# Altium schematic symbol library MS IMP Library.SchLib: 375 symbols (part 2 of 9)
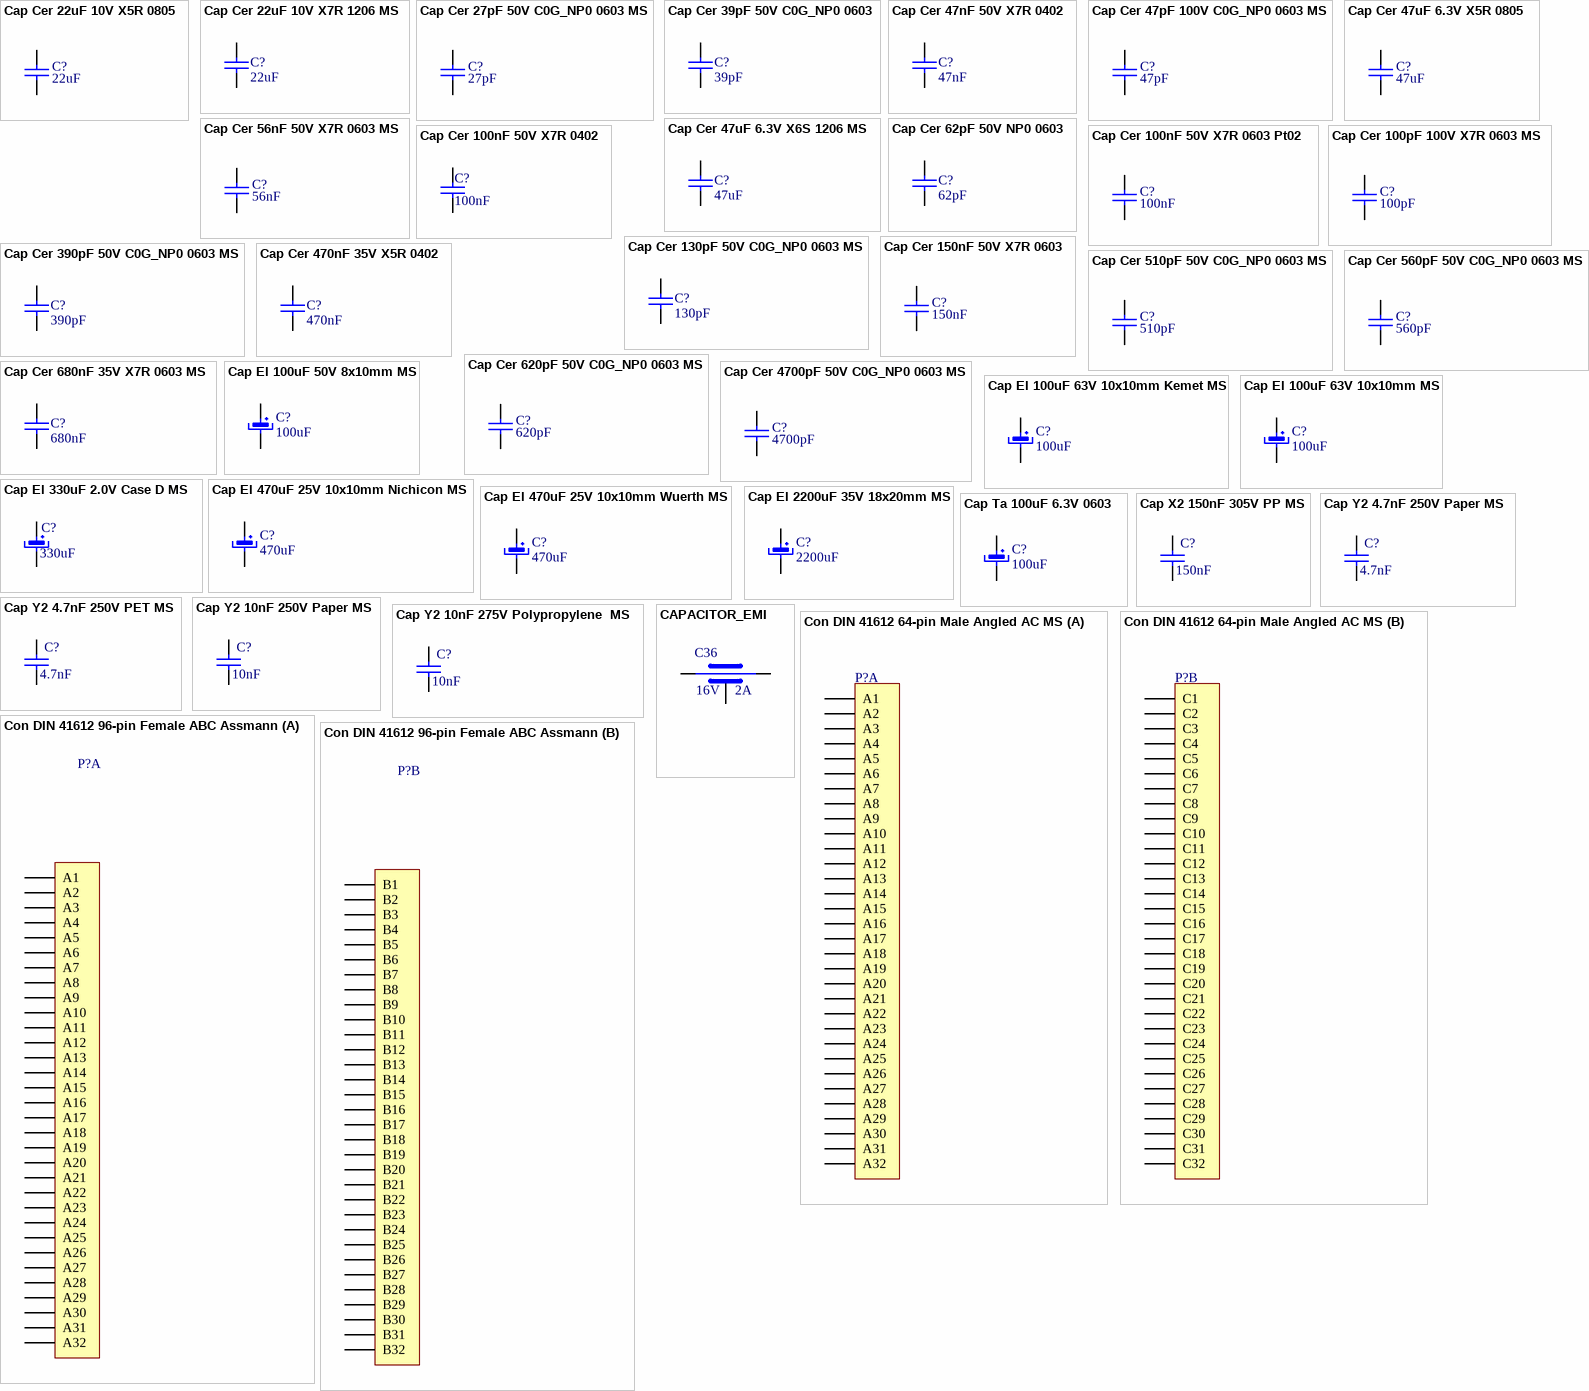
[diagram p23: symbols Cap Cer 22uF 10V X5R 0805 to Con DIN 41612 96-pin Female ABC Assmann]

## Cap Cer 47nF 50V X7R 0402
designator C?, comment DB Parameter 1: 47nF  (hidden comment: Ceramic Capacitor)
Ceramic Capacitor 47nF 50V X7R 0402; Manufacturer: Yageo; Manufacturer Part Number: CC0402KRX7R9BB473; Tolerance: ±10%; Production Status: Active; Distributor: Digi-Key; Distributor Part Number: 311-3815-1-ND; Last Revision Date: 30.10.2020.; Temperature Range: -55°C ~ +125°C; Mounting: SMD; ComponentLink1Description: Datasheet; ComponentLink1URL: https://www.yageo.com/upload/media/product/productsearch/datasheet/mlcc/UPY-GPHC_X7R_6.3V-to-50V_18.pdf; ComponentLink2Description: Distributor; ComponentLink2URL: https://www.digikey.com/en/products/detail/yageo/CC0402KRX7R9BB473/5883379; ComponentLink3Description: Manufacturer; ComponentLink3URL: https://www.yageo.com/en/ProductSearch/PartNumberSearch?part_number=CC0402KRX7R9BB473; Status: Not Checked; Voltage: 50V; Dielectric: X7R; ComponentLink4Description: Charts; ComponentLink4URL: https://www.yageo.com/upload/media/product/productsearch/datasheet/mlcc/UPY-GPHC_X7R_6.3V-to-50V_18.pdf; Capacitance: 47nF; DB Parameter 2: 50V; DB Parameter 3: X7R
footprint C0402 Fed MS
pins: 1, 2

## Cap Cer 47pF 100V C0G_NP0 0603 MS
designator C?, comment Capacitance: 47pF  (hidden comment: Ceramic Capacitor)
Ceramic Capacitor 47pF 100V C0G_NP0 0603; Manufacturer: KEMET; Manufacturer Part Number: C0603C470J1GACAUTO; Tolerance: ±5%; Distributor: Digi-Key; Distributor Part Number: 399-16021-1-ND; Last Revision Date: 28.07.2021; Temperature Range: -55°C ~ +125°C; Mounting: SMD; ComponentLink1Description: Datasheet; ComponentLink1URL: https://content.kemet.com/datasheets/KEM_C1022_C0G_AUTO_SMD.pdf; ComponentLink2Description: Distributor; ComponentLink2URL: https://www.digikey.com/en/products/detail/kemet/C0603C470J1GACAUTO/7516254; ComponentLink3Description: Manufacturer; ComponentLink3URL: https://www.kemet.com/en/us/search.html?q=C0603C470J1GACAUTO&t=566; Status: Not Checked; Voltage: 100V; Dielectric: C0G_NP0; ComponentLink4Description: Charts; ComponentLink4URL: https://www.kemet.com/en/us/search.html?q=C0603C470J1GACAUTO&t=566; DB Parameter 1: 47pF; DB Parameter 2: 100V; DB Parameter 3: C0G_NP0
footprint C0603L 0.8 MM MS (Chip Capacitor, Body 1.6x0.8mm, IPC High Density)
pins: 1, 2

## Cap Cer 47uF 6.3V X5R 0805
designator C?, comment Capacitance: 47uF  (hidden comment: Ceramic Capacitor)
Ceramic Capacitor 47uF 6.3V X5R 0805; Manufacturer: Taiyo Yuden; Manufacturer Part Number: JMK212BJ476MG-T; Tolerance: ±20%; Production Status: Active; Distributor: Mouser; Distributor Part Number: 963-JMK212BJ476MG-T; Last Revision Date: 19.10.2020.; Temperature Range: -55°C ~ +85°C; Mounting: SMD; ComponentLink1Description: Datasheet; ComponentLink1URL: https://ds.yuden.co.jp/TYCOMPAS/or/detail?pn=JMK212BBJ476MG-T&u=M; ComponentLink2Description: Distributor; ComponentLink2URL: https://www.digikey.com/en/products/detail/taiyo-yuden/JMK212BJ476MG-T/1212779; ComponentLink3Description: Manufacturer; ComponentLink3URL: https://ds.yuden.co.jp/TYCOMPAS/or/detail?pn=JMK212BBJ476MG-T&u=M; Status: Not Checked; Voltage: 6.3V; Dielectric: X5R; ComponentLink4Description: Charts; ComponentLink4URL: https://ds.yuden.co.jp/TYCOMPAS/or/detail?pn=JMK212BBJ476MG-T&u=M; DB Parameter 2: 6.3V; DB Parameter 3: X5R; DB Parameter 1: 47uF
footprint 0805 C 1.27mm MS (Capacitor 0805 1.27mm)
pins: 1, 2

## Cap Cer 47uF 6.3V X6S 1206 MS
designator C?, comment DB Parameter 1: 47uF  (hidden comment: Ceramic Capacitor)
Ceramic Capacitor 47uF 6.3V X6S 1206; Manufacturer: Murata Electronics; Manufacturer Part Number: GRM31CC80J476ME18L; Tolerance: ±10%; Production Status: Active; Distributor: Mouser; Distributor Part Number: 81-GRM31CC80J476ME8L; Last Revision Date: 16.11.2021; Temperature Range: -55°C ~ +105°C; Mounting: SMD; ComponentLink1Description: Datasheet; ComponentLink2Description: Distributor; ComponentLink2URL: https://eu.mouser.com/ProductDetail/Murata/GRM31CC80J476ME18L?qs=sGAEpiMZZMut9fa67LKaQm6Q54R54Ui%252B1OETq2MOsJQ%3D; ComponentLink3Description: Manufacturer; Status: Not Checked; Voltage: 6.3V; Dielectric: X6S; ComponentLink4Description: Charts; Capacitance: 47uF; DB Parameter 2: 6.3V; DB Parameter 3: X6S
footprint 1206 C 1.80mm (Ceramic Capacitor 1206 1.80mm)
pins: 1, 2

## Cap Cer 56nF 50V X7R 0603 MS
designator C?, comment Capacitance: 56nF  (hidden comment: Ceramic Capacitor)
Ceramic Capacitor 56nF 50V X7R 0603; Manufacturer: Yageo; Manufacturer Part Number: CC0603KRX7R9BB563; Tolerance: ±10%; Production Status: Active; Distributor: Mouser; Distributor Part Number: 603-CC603KRX7R9BB563; Last Revision Date: 12.02.2021; Temperature Range: -55°C ~ +125°C; Mounting: SMD; ComponentLink1Description: Datasheet; ComponentLink1URL: https://www.yageo.com/upload/media/product/productsearch/datasheet/mlcc/UPY-GPHC_X7R_6.3V-to-50V_20.pdf; ComponentLink2Description: Distributor; ComponentLink2URL: https://eu.mouser.com/ProductDetail/YAGEO/CC0603KRX7R9BB563?qs=57cj7OiSijmLSlNkQYflZA%3D%3D; ComponentLink3Description: Manufacturer; ComponentLink3URL: https://www.yageo.com/en/ProductSearch/PartNumberSearch?part_number=CC0603KRX7R9BB563; Status: Not Checked; Voltage: 50V; Dielectric: X7R; ComponentLink4Description: Charts; ComponentLink4URL: https://www.yageo.com/en/Chart/Index/CC0603KRX7R9BB563; DB Parameter 1: 56nF; DB Parameter 2: 50V; DB Parameter 3: X7R
footprint C0603L 0.8 MM MS (Chip Capacitor, Body 1.6x0.8mm, IPC High Density)
pins: 1, 2

## Cap Cer 62pF 50V NP0 0603
designator C?, comment DB Parameter 1: 62pF  (hidden comment: Ceramic Capacitor)
Ceramic Capacitor 62pF 50V NP0 0603; Manufacturer: Yageo; Manufacturer Part Number: CC0603JRNPO9BN620; Tolerance: ±5%; Production Status: Active; Distributor: Mouser; Distributor Part Number: 603-CC603JRNPO9BN620; Last Revision Date: 01.11.2020.; Temperature Range: -55°C ~ +125°C; Mounting: SMD; ComponentLink1Description: Datasheet; ComponentLink1URL: https://www.yageo.com/upload/media/product/productsearch/datasheet/mlcc/UPY-GP_NP0_16V-to-50V_18.pdf; ComponentLink2Description: Distributor; ComponentLink2URL: https://eu.mouser.com/ProductDetail/Yageo/CC0603JRNPO9BN620?qs=57cj7OiSijmF5ThM5Gs2zA%3D%3D; ComponentLink3Description: Manufacturer; ComponentLink3URL: https://www.yageo.com/en/ProductSearch/PartNumberSearch?part_number=CC0603JRNPO9BN620; Status: Not Checked; Voltage: 50V; Dielectric: NP0; ComponentLink4Description: Charts; Capacitance: 62pF; DB Parameter 2: 50V; DB Parameter 3: NP0
footprint C0603L 0.8 MM MS (Chip Capacitor, Body 1.6x0.8mm, IPC High Density)
pins: 1, 2

## Cap Cer 100nF 50V X7R 0402
designator C?, comment DB Parameter 1: 100nF  (hidden comment: Ceramic Capacitor)
Ceramic Capacitor 100nF 50V X7R 0402; Manufacturer: TDK Corporation; Manufacturer Part Number: CGA2B3X7R1H473K050BB; Tolerance: ±10%; Production Status: Active; Distributor: Digi-Key; Distributor Part Number: 445-6897-1-ND; Last Revision Date: 30.10.2020.; Temperature Range: -55°C ~ +125°C; Mounting: SMD; ComponentLink1Description: Datasheet; ComponentLink1URL: https://product.tdk.com/info/en/catalog/datasheets/mlcc_automotive_general_en.pdf; ComponentLink2Description: Distributor; ComponentLink2URL: https://www.digikey.com/en/products/detail/tdk-corporation/CGA2B3X7R1H473K050BB/2672790; ComponentLink3Description: Manufacturer; ComponentLink3URL: https://search.tdk.com/search?site=FBNXDO0R&charset=UTF-8&group=5&design=31&query=CGA2B3X7R1H473K050BB; Status: Not Checked; Voltage: 50V; Dielectric: X7R; ComponentLink4Description: Charts; ComponentLink4URL: https://product.tdk.com/info/en/documents/chara_sheet/CGA2B3X7R1H473K050BB.pdf; Capacitance: 100nF; DB Parameter 2: 50V; DB Parameter 3: X7R
footprint C0402 Fed MS
pins: 1, 2

## Cap Cer 100nF 50V X7R 0603 Pt02
designator C?, comment Capacitance: 100nF  (hidden comment: Ceramic Capacitor)
Ceramic Capacitor 100nF 50V X7R 0603; Manufacturer: Samsung Electro-Mechanics; Manufacturer Part Number: CL10B104KB8WPNC; Tolerance: ±10%; Distributor: Mouser; Distributor Part Number: 187-CL10B104KB8WPNC; Last Revision Date: 19.10.2020.; Temperature Range: -55°C ~ +125°C; Mounting: SMD; ComponentLink1Description: Datasheet; ComponentLink1URL: https://eu.mouser.com/datasheet/2/396/mlcc02_e-1307760.pdf; ComponentLink2Description: Distributor; ComponentLink2URL: https://eu.mouser.com/ProductDetail/Taiyo-Yuden/JMK212BJ476MG-T?qs=I6KAKw0tg2zBfYZ1Prs1hQ%3D%3D; ComponentLink3Description: Manufacturer; ComponentLink3URL: https://ds.yuden.co.jp/TYCOMPAS/or/detail?pn=JMK212BBJ476MG-T&u=M; Status: Not Checked; Voltage: 50V; Dielectric: X7R; ComponentLink4Description: Charts; DB Parameter 1: 100nF; DB Parameter 2: 50V; DB Parameter 3: X7R
footprint C0603L 0.8 MM MS (Chip Capacitor, Body 1.6x0.8mm, IPC High Density)
pins: 1, 2

## Cap Cer 100pF 100V X7R 0603 MS
designator C?, comment Capacitance: 100pF  (hidden comment: Ceramic Capacitor)
Ceramic Capacitor 100pF 100V X7R 0603; Manufacturer: AVX Corporation; Manufacturer Part Number: 06031C101JAT2A; Tolerance: ±5%; Distributor: Digi-Key; Distributor Part Number: 478-12671-1-ND; Last Revision Date: 02.04.202; Temperature Range: -55°C ~ +125°C; Mounting: SMD; ComponentLink1Description: Datasheet; ComponentLink1URL: https://datasheets.avx.com/X7RDielectric.pdf; ComponentLink2Description: Distributor; ComponentLink2URL: https://www.digikey.com/en/products/detail/avx-corporation/06031C101JAT2A/1598651; ComponentLink3Description: Manufacturer; ComponentLink3URL: https://spicat.avx.com/product/mlcc/chartview/06031C101JAT2A; Status: Not Checked; Voltage: 100V; Dielectric: X7R; ComponentLink4Description: Charts; ComponentLink4URL: https://spicat.avx.com/product/mlcc/chartview/06031C101JAT2A; DB Parameter 1: 100pF; DB Parameter 2: 100V; DB Parameter 3: X7R
footprint C0603L 0.8 MM MS (Chip Capacitor, Body 1.6x0.8mm, IPC High Density)
pins: 1, 2

## Cap Cer 130pF 50V C0G_NP0 0603 MS
designator C?, comment DB Parameter 1: 130pF  (hidden comment: Ceramic Capacitor)
Ceramic Capacitor 130pF 50V C0G_NP0 0603; Manufacturer: Kemet; Manufacturer Part Number: GRM1885C1H131GA01D; Tolerance: ±10%; Production Status: Active; Distributor: Mouser; Distributor Part Number: 81-GRM1885C1H131GA1D; Last Revision Date: 14.03.2021; Temperature Range: -55°C ~ +125°C; Mounting: SMD; ComponentLink1Description: Datasheet; ComponentLink1URL: https://www.murata.com/en-global/api/pdfdownloadapi?cate=luCeramicCapacitorsSMD&partno=GRM1885C1H131GA01%23; ComponentLink2Description: Distributor; ComponentLink2URL: https://eu.mouser.com/ProductDetail/Murata-Electronics/GRM1885C1H131GA01D?qs=2YjXvJr3xvh9r2cRgTaJCA%3D%3D; ComponentLink3Description: Manufacturer; ComponentLink3URL: https://www.murata.com/en-global/products/productdetail?partno=GRM1885C1H131GA01%23; Status: Not Checked; Voltage: 50V; Dielectric: C0G_NP0; ComponentLink4Description: Charts; ComponentLink4URL: https://www.murata.com/en-global/products/productdetail?partno=GRM1885C1H131GA01%23; Capacitance: 130pF; DB Parameter 2: 50V; DB Parameter 3: C0G_NP0
footprint C0603L 0.8 MM MS (Chip Capacitor, Body 1.6x0.8mm, IPC High Density)
pins: 1, 2

## Cap Cer 150nF 50V X7R 0603
designator C?, comment Capacitance: 150nF  (hidden comment: Ceramic Capacitor)
Ceramic Capacitor 150nF 50V X7R 0603; Manufacturer: Samsung Electro-Mechanics; Manufacturer Part Number: CL10B154KB8VPNC; Tolerance: ±10%; Production Status: Active; Distributor: Mouser; Distributor Part Number: 187-CL10B154KB8VPNC; Last Revision Date: 14.03.2021; Temperature Range: -55°C ~ +125°C; Mounting: SMD; ComponentLink1Description: Datasheet; ComponentLink1URL: https://eu.mouser.com/datasheet/2/585/MLCC_Automotive-1837966.pdf; ComponentLink2Description: Distributor; ComponentLink2URL: https://eu.mouser.com/ProductDetail/Samsung-Electro-Mechanics/CL10B154KB8VPNC?qs=xZ%2FP%252Ba9zWqadK55wlmdl%252BA%3D%3D; ComponentLink3Description: Manufacturer; ComponentLink3URL: http://product.samsungsem.com/mlcc/CL10B154KB8VPN.do; Status: Not Checked; Voltage: 50V; Dielectric: X7R; ComponentLink4Description: Charts; DB Parameter 1: 150nF; DB Parameter 2: 50V; DB Parameter 3: X7R; Populated: http://product.samsungsem.com/mlcc/CL10B154KB8VPN.do
footprint C0603L 0.8 MM MS (Chip Capacitor, Body 1.6x0.8mm, IPC High Density)
pins: 1, 2

## Cap Cer 390pF 50V C0G_NP0 0603 MS
designator C?, comment DB Parameter 1: 390pF  (hidden comment: Ceramic Capacitor)
Ceramic Capacitor 390pF 50V C0G_NP0 0603; Manufacturer: Samsung Electro-Mechanics; Manufacturer Part Number: CL10C391JB81PNC; Tolerance: ±5%; Production Status: Active; Distributor: Mouser; Distributor Part Number: 187-CL10C391JB81PNC; Last Revision Date: 14.12.2021; Temperature Range: -55°C ~ +125°C; Mounting: SMD; ComponentLink1Description: Datasheet; ComponentLink1URL: http://product.samsungsem.com/mlcc/CL10C391JB81PN.do; ComponentLink2Description: Distributor; ComponentLink2URL: https://eu.mouser.com/ProductDetail/Samsung-Electro-Mechanics/CL10C391JB81PNC?qs=uvHW8qpSFOSCmwqoLNbh5w%3D%3D; ComponentLink3Description: Manufacturer; ComponentLink3URL: http://product.samsungsem.com/mlcc/CL10C391JB81PN.do; Status: Not Checked; Voltage: 50V; Dielectric: C0G_NP0; ComponentLink4Description: Charts; ComponentLink4URL: http://product.samsungsem.com/mlcc/CL10C391JB81PN.do; Capacitance: 390pF; DB Parameter 2: 50V; DB Parameter 3: C0G_NP0
footprint C0603L 0.8 MM MS (Chip Capacitor, Body 1.6x0.8mm, IPC High Density)
pins: 1, 2

## Cap Cer 470nF 35V X5R 0402
designator C?, comment DB Parameter 1: 470nF  (hidden comment: Ceramic Capacitor)
Ceramic Capacitor 470nF 35V X5R 0402; Manufacturer: Murata Electronics; Manufacturer Part Number: GRT155R6YA474ME01D; Tolerance: ±10%; Production Status: Active; Distributor: Digi-Key; Distributor Part Number: 490-12274-1-ND; Last Revision Date: 30.10.2020.; Temperature Range: -55°C ~ +85°C; Mounting: SMD; ComponentLink1Description: Datasheet; ComponentLink1URL: https://search.murata.co.jp/Ceramy/image/img/A01X/G101/ENG/GRT155R6YA474ME01-01.pdf; ComponentLink2Description: Distributor; ComponentLink2URL: https://www.digikey.com/en/products/detail/murata-electronics/GRT155R6YA474ME01D/5416696; ComponentLink3Description: Manufacturer; ComponentLink3URL: https://www.murata.com/en-global/products/productdetail?partno=GRT155R6YA474KE01%23; Status: Not Checked; Voltage: 35V; Dielectric: X5R; ComponentLink4Description: Charts; ComponentLink4URL: https://www.murata.com/en-global/products/productdetail?partno=GRT155R6YA474KE01%23; Capacitance: 470nF; DB Parameter 2: 35V; DB Parameter 3: X5R
footprint C0402 Fed MS
pins: 1, 2

## Cap Cer 510pF 50V C0G_NP0 0603 MS
designator C?, comment Capacitance: 510pF  (hidden comment: Ceramic Capacitor)
Ceramic Capacitor 510pF 50V C0G_NP0 0603; Manufacturer: Kemet; Manufacturer Part Number: C0603C511K5GACTU; Tolerance: ±10%; Production Status: Active; Distributor: Mouser; Distributor Part Number: 80-C0603C511K5G; Last Revision Date: 16.11.2021; Temperature Range: -55°C ~ +125°C; Mounting: SMD; ComponentLink1Description: Datasheet; ComponentLink1URL: https://eu.mouser.com/datasheet/2/212/KEM_C1003_C0G_SMD-1101588.pdf; ComponentLink2Description: Distributor; ComponentLink2URL: https://eu.mouser.com/ProductDetail/KEMET/C0603C511K5GACTU?qs=%2Fha2pyFaduhNQY3NhlHxeW4BUWzIjA29XHALDuH%252BrVjawX5nGbp5uQ%3D%3D; ComponentLink3Description: Manufacturer; ComponentLink3URL: https://www.kemet.com/en/us/capacitors/ceramic/product/C0603C511K5GACTU.html; Status: Not Checked; Voltage: 50V; Dielectric: C0G_NP0; ComponentLink4Description: Charts; ComponentLink4URL: https://www.kemet.com/en/us/capacitors/ceramic/product/C0603C511K5GACTU.html; DB Parameter 1: 510pF; DB Parameter 2: 50V; DB Parameter 3: C0G_NP0
footprint C0603L 0.8 MM MS (Chip Capacitor, Body 1.6x0.8mm, IPC High Density)
pins: 1, 2

## Cap Cer 560pF 50V C0G_NP0 0603 MS
designator C?, comment Capacitance: 560pF  (hidden comment: Ceramic Capacitor)
Ceramic Capacitor 560pF 50V C0G_NP0 0603; Manufacturer: Murata Electronics; Manufacturer Part Number: GRM0335C1H561JE01D; Tolerance: ±5%; Production Status: Active; Distributor: Mouser; Distributor Part Number: 81-GRM0335C1H561JE1D; Last Revision Date: 17.11.2021; Temperature Range: -55°C ~ +125°C; Mounting: SMD; ComponentLink1Description: Datasheet; ComponentLink1URL: https://eu.mouser.com/datasheet/2/281/1/GRM0335C1H561JE01_01A-1980971.pdf; ComponentLink2Description: Distributor; ComponentLink2URL: https://eu.mouser.com/ProductDetail/Murata/GRM0335C1H561JE01D?qs=sGAEpiMZZMv0NwlthflBi%2F9fjiwc3ImlhqlHhpN5LPM%3D; ComponentLink3Description: Manufacturer; ComponentLink3URL: https://www.murata.com/en-global/products/productdetail?partno=GRM0335C1H561JE01%23; Status: Not Checked; Voltage: 50V; Dielectric: C0G_NP0; ComponentLink4Description: Charts; ComponentLink4URL: https://www.murata.com/en-global/products/productdetail?partno=GRM0335C1H561JE01%23; DB Parameter 1: 560pF; DB Parameter 2: 50V; DB Parameter 3: C0G_NP0
footprint C0603L 0.8 MM MS (Chip Capacitor, Body 1.6x0.8mm, IPC High Density)
pins: 1, 2

## Cap Cer 620pF 50V C0G_NP0 0603 MS
designator C?, comment Capacitance: 620pF  (hidden comment: Ceramic Capacitor)
Ceramic Capacitor 620pF 50V COG_NP0 0603; Manufacturer: Yageo; Manufacturer Part Number: CC0603JRNPO9BN621; Tolerance: ±5%; Dielectric: C0G_NP0; Production Status: Active; Distributor: Mouser; Distributor Part Number: 603-CC603JRNPO9BN621; Last Revision Date: 12.02.2021; Temperature Range: -55°C ~ +125°C; Mounting: SMD; ComponentLink1Description: Datasheet; ComponentLink1URL: https://www.yageo.com/upload/media/product/productsearch/datasheet/mlcc/UPY-GP_NP0_16V-to-50V_18.pdf; ComponentLink2Description: Distributor; ComponentLink2URL: https://eu.mouser.com/ProductDetail/YAGEO/CC0603JRNPO9BN621?qs=57cj7OiSijlf1UlDO%2Fa6vw%3D%3D; ComponentLink3Description: Manufacturer; ComponentLink3URL: https://www.yageo.com/en/ProductSearch/PartNumberSearch?part_number=CC0603JRNPO9BN621; Status: Not Checked; Voltage: 50V; ComponentLink4Description: Charts; ComponentLink4URL: https://www.yageo.com/en/Chart/Index/CC0603JRNPO9BN621; DB Parameter 1: 620pF; DB Parameter 2: 50V; DB Parameter 3: C0G_NP0
footprint C0603L 0.8 MM MS (Chip Capacitor, Body 1.6x0.8mm, IPC High Density)
pins: 1, 2

## Cap Cer 680nF 35V X7R 0603 MS
designator C?, comment DB Parameter 1: 680nF  (hidden comment: Ceramic Capacitor)
Ceramic Capacitor  680nF 35V X7R 0603; Manufacturer: TDK; Manufacturer Part Number: CGA3E1X7R1V684K080AC; Tolerance: ±10%; Dielectric: C0G_NP0; Production Status: Active; Distributor: Mouser; Distributor Part Number: 810-CGA3E1X7R1V684KC; Last Revision Date: 02.12.2021; Temperature Range: -55°C ~ +125°C; Mounting: SMD; ComponentLink1Description: Datasheet; ComponentLink1URL: https://product.tdk.com/en/search/capacitor/ceramic/mlcc/info?part_no=CGA3E1X7R1V684K080AC; ComponentLink2Description: Distributor; ComponentLink2URL: https://eu.mouser.com/ProductDetail/TDK/CGA3E1X7R1V684K080AC?qs=xLDY6iXSiQbHrld5Dg5%252BrA%3D%3D; ComponentLink3Description: Manufacturer; ComponentLink3URL: https://product.tdk.com/en/search/capacitor/ceramic/mlcc/info?part_no=CGA3E1X7R1V684K080AC; Status: Not Checked; Voltage: 35V; ComponentLink4Description: Charts; ComponentLink4URL: https://product.tdk.com/en/search/capacitor/ceramic/mlcc/info?part_no=CGA3E1X7R1V684K080AC; Capacitance: 680nF; DB Parameter 2: 35V; DB Parameter 3: C0G_NP0
footprint C0603L 0.8 MM MS (Chip Capacitor, Body 1.6x0.8mm, IPC High Density)
pins: 1, 2

## Cap Cer 4700pF 50V C0G_NP0 0603 MS
designator C?, comment Capacitance: 4700pF  (hidden comment: Ceramic Capacitor)
Ceramic Capacitor 4700pF 50V C0G_NP0 0603; Manufacturer: TDK Corporation; Manufacturer Part Number: CGA3E2C0G1H472J080AA; Tolerance: ±5%; Dielectric: C0G, NP0; Production Status: Active; Distributor: Digi-Key; Distributor Part Number: 445-6912-1-ND; Last Revision Date: 26.06.2021; Temperature Range: -55°C ~ +125°C; Mounting: SMD; ComponentLink1Description: Datasheet; ComponentLink1URL: https://product.tdk.com/en/system/files?file=dam/doc/product/capacitor/ceramic/mlcc/catalog/mlcc_automotive_general_en.pdf; ComponentLink2Description: Distributor; ComponentLink2URL: https://www.digikey.com/en/products/detail/tdk-corporation/CGA3E2C0G1H472J080AA/2672805; ComponentLink3Description: Manufacturer; ComponentLink3URL: https://product.tdk.com/en/search/capacitor/ceramic/mlcc/info?part_no=CGA3E2C0G1H472J080AA; Status: Not Checked; Voltage: 50V; ComponentLink4Description: Charts; ComponentLink4URL: https://product.tdk.com/system/files/dam/doc/product/capacitor/ceramic/mlcc/charasheet/cga3e2c0g1h472j080aa.pdf; DB Parameter 1: 4700pF; DB Parameter 2: 50V; DB Parameter 3: C0G, NP0
footprint C0603L 0.8 MM MS (Chip Capacitor, Body 1.6x0.8mm, IPC High Density)
pins: 1, 2

## Cap El 100uF 50V 8x10mm MS
designator C?, comment Capacitance: 100uF  (hidden comment: Electorlytic Capacitor)
Electrolytic Capacitor 100uF 50V 8x10mm; Manufacturer: Nichicon; Manufacturer Part Number: UUD1H101MNL1GS; Tolerance: ±20%; Ripple Current: 300mA @ 100KHz; Production Status: Active; Distributor: Digi-Key; Distributor Part Number: 493-2306-1-ND; Last Revision Date: 03.02.2021; Temperature Range: -55°C ~ +105°C; Mounting: SMD; ComponentLink1Description: Datasheet; ComponentLink1URL: https://www.nichicon.co.jp/english/products/pdfs/e-uud.pdf; ComponentLink2Description: Distributor; ComponentLink2URL: https://www.digikey.com/en/products/detail/nichicon/UUD1H101MNL1GS/590047; ComponentLink3Description: Manufacturer; ComponentLink3URL: https://www.nichicon.co.jp/english/products/pdfs/e-uud.pdf; Status: Unchecked; Voltage: 50V; ESR: -; DB Parameter 1: 100uF; DB Parameter 2: 50V
footprint Electrolytic Cap SMD 8x10mm MS
pins: 1, 2

## Cap El 100uF 63V 10x10mm Kemet MS
designator C?, comment Capacitance: 100uF  (hidden comment: Electrolytic Capacitor)
Electrolytic Capacitor 100uF 63V 10x10mm; Manufacturer: KEMET; Manufacturer Part Number: EDK107M063A9PAA; Tolerance: ±20%; Ripple Current: 60mA @ 100KHz; Production Status: Active; Distributor: Digi-Key; Distributor Part Number: 399-6673-1-ND; Last Revision Date: 29.07.2021; Temperature Range: -40°C ~ +85°C; Mounting: SMD; ComponentLink1Description: Datasheet; ComponentLink1URL: https://content.kemet.com/datasheets/KEM_A4001_EDK.pdf; ComponentLink2Description: Distributor; ComponentLink2URL: https://www.digikey.com/en/products/detail/kemet/EDK107M063A9PAA/3083088; ComponentLink3Description: Manufacturer; ComponentLink3URL: https://www.kemet.com/en/us/search.html?q=EDK107M063A9PAA; Status: Not Checked; Voltage: 63V; ESR: -; DB Parameter 1: 100uF; DB Parameter 2: 63V; DB Parameter 3: -
footprint Electrolytic Cap SMD 10x10mm MS (Electrolytic Capacitor SMD 10x10mm)
pins: 1, 2

## Cap El 100uF 63V 10x10mm MS
designator C?, comment Capacitance: 100uF  (hidden comment: Electorlytic Capacitor)
Electrolytic Capacitor 100uF 63V 10x10mm; Manufacturer: Panasonic Electronic Components; Manufacturer Part Number: EEE-FN1J101V; Tolerance: ±20%; ESR: 350mOhm@100kHz; Ripple Current: 300mA @ 100KHz; Production Status: Active; Distributor: Digi-Key; Distributor Part Number: 10-EEE-FN1J101VCT-ND; Last Revision Date: 04.02.2021; Temperature Range: -55°C ~ +105°C; Mounting: SMD; ComponentLink1Description: Datasheet; ComponentLink1URL: https://b2b-api.panasonic.eu/file_stream/pids/fileversion/9127; ComponentLink2Description: Distributor; ComponentLink2URL: https://www.digikey.com/en/products/detail/panasonic-electronic-components/EEE-FN1J101V/11657009; ComponentLink3Description: Manufacturer; ComponentLink3URL: https://na.industrial.panasonic.com/products/capacitors/aluminum-electrolytic-capacitors/lineup/aluminum-electrolytic-capacitors-surface-mount-type/series/127533/model/131506; Status: Unchecked; Voltage: 63V; DB Parameter 1: 100uF; DB Parameter 2: 63V; DB Parameter 3: 350mOhm@100kHz
footprint Electrolytic Cap SMD 10x10mm MS (Electrolytic Capacitor SMD 10x10mm)
pins: 1, 2

## Cap El 330uF 2.0V Case D MS
designator C?, comment Capacitance: 330uF  (hidden comment: Electrolytic Capacitor)
Electorlytic Capacitor 330uF 2.0V Case D MS; Manufacturer: Panasonic; Manufacturer Part Number: EEF-GX0D331R; Tolerance: ±20%; ESR: 0.003R; Ripple Current: 4A @ 10KHz; Production Status: Active; Distributor: Mouser; Distributor Part Number: 667-EEF-GX0D331R; Last Revision Date: 16.11.2021; Temperature Range: -55°C ~ +105°C; Mounting: SMD; ComponentLink1Description: Datasheet; ComponentLink1URL: https://eu.mouser.com/datasheet/2/315/ABE0000C61-947590.pdf; ComponentLink2Description: Distributor; ComponentLink2URL: https://eu.mouser.com/ProductDetail/Panasonic/EEF-GX0D331R?qs=%2Fha2pyFaduhvdIhlqgDPJLXI1LT4grGHqBBOAATNrD7FmymFv0D1hA%3D%3D; ComponentLink3Description: Manufacturer; ComponentLink3URL: https://industrial.panasonic.com/ww/products/pt/sp-cap/models/EEFGX0D331R; Status: Not Checked; Voltage: 2.0V; DB Parameter 1: 330uF; DB Parameter 2: 2.0V
footprint Case D MS (Tantalum Capacitor SMD Case D)
pins: 1, 2

## Cap El 470uF 25V 10x10mm Nichicon MS
designator C?, comment Capacitance: 470uF  (hidden comment: Electorlytic Capacitor)
Electrolytic Capacitor 470uF 25V 10x10mm; Manufacturer: Nichicon; Manufacturer Part Number: UCL1E471MNL1GS; Tolerance: ±20%; ESR: 60mOhm; Ripple Current: 1.19A @ 120KHz; Production Status: Active; Distributor: Digi-Key; Distributor Part Number: 493-3944-1-ND; Last Revision Date: 18.10.2021; Temperature Range: -55°C ~ +105°C; Part ID: https://products.nichicon.co.jp/en/product_detail.cfm; Mounting: SMD; ComponentLink1Description: Datasheet; ComponentLink1URL: https://www.nichicon.co.jp/english/products/pdfs/e-ucl.pdf; ComponentLink2Description: Distributor; ComponentLink2URL: https://www.digikey.com/en/products/detail/nichicon/UCL1E471MNL1GS/2300293; ComponentLink3Description: Manufacturer; Status: Not Checked; Voltage: 25V; DB Parameter 1: 470uF; DB Parameter 2: 25V; DB Parameter 3: 60mOhm
footprint Electrolytic Cap SMD 10x10mm Wuerth MS (Electrolytic Capacitor SMD 10x10mm)
pins: 1, 2

## Cap El 470uF 25V 10x10mm Wuerth MS
designator C?, comment Capacitance: 470uF  (hidden comment: Electorlytic Capacitor)
Electrolytic Capacitor 470uF 25V 10x10mm; Manufacturer: Wurth Elektronik; Manufacturer Part Number: 865080457015; Tolerance: ±20%; ESR: 0.15Ohm; Ripple Current: 0.65A @ 100KHz; DB Parameter 3: 0.15Ohm@100kHz; Production Status: Active; Distributor: Mouser; Distributor Part Number: 710-865080457015; Last Revision Date: 28.07.2022; Temperature Range: -55°C ~ +105°C; Mounting: SMD; ComponentLink1Description: Datasheet; ComponentLink1URL: https://eu.mouser.com/datasheet/2/445/865080457015-1726431.pdf; ComponentLink2Description: Distributor; ComponentLink2URL: https://eu.mouser.com/ProductDetail/Wurth-Elektronik/865080457015?qs=0KOYDY2FL2%252BEKTJa1jxjAQ%3D%3D; ComponentLink3Description: Manufacturer; ComponentLink3URL: https://www.we-online.com/catalog/en/WCAP-ASLI?sq=865080457015&sp=https%3A%2F%2Fwww.we-online.com%2Fweb%2Fen%2Fwuerth_elektronik%2Fsearchpage.php%3Fsearch%3D865080457015#865080457015; Status: Not Checked; Voltage: 25V; DB Parameter 1: 470uF; DB Parameter 2: 25V
footprint Electrolytic Cap SMD 10x10mm Wuerth MS (Electrolytic Capacitor SMD 10x10mm)
pins: 1, 2

## Cap El 2200uF 35V 18x20mm MS
designator C?, comment Capacitance: 2200uF  (hidden comment: Electorlytic Capacitor)
Electorlytic Capacitor 2200uF 35V 18x20mm MS; Manufacturer: Nichicon; Manufacturer Part Number: URZ1V222MHD; Tolerance: ±20%; Ripple Current: 1,27A @ 10KHz; Production Status: Active; Distributor: Digi-Key; Distributor Part Number: 493-15957-ND; Last Revision Date: 17.03.2021; Temperature Range: -55°C ~ +105°C; Mounting: TH; ComponentLink1Description: Datasheet; ComponentLink1URL: https://www.nichicon.co.jp/english/products/pdfs/e-urz.pdf; ComponentLink2Description: Distributor; ComponentLink2URL: https://www.digikey.com/en/products/detail/nichicon/URZ1V222MHD/2538996; ComponentLink3Description: Manufacturer; ComponentLink3URL: https://products.nichicon.co.jp/en/part_search/part_list.cfm#; Status: Unchecked; Voltage: 35V; ESR: -; DB Parameter 1: 2200uF; DB Parameter 2: 35V
footprint CAPPRD750W85D1800H2000 MS
pins: 1, 2

## Cap Ta 100uF 6.3V 0603
designator C?, comment Capacitance: 100uF  (hidden comment: Tantalum Capacitor)
Tantalum Capacitor 100uF 6.3V 0603; Manufacturer: AVX; Manufacturer Part Number: F980J107MMAAXE; Tolerance: ±20%; ESR: 10R @ 100KHz; Ripple Current: 50mA rms @ 100KHz; DB Parameter 3: 10R; Production Status: Active; Distributor: Digi-Key; Distributor Part Number: 478-9836-1-ND; Last Revision Date: 20.10.2020.; Temperature Range: -55°C ~ +125°C; Mounting: SMD; ComponentLink1Description: Datasheet; ComponentLink1URL: http://datasheets.avx.com/F98.pdf; ComponentLink2Description: Distributor; ComponentLink2URL: https://www.digikey.com/en/products/detail/avx-corporation/F980J107MMAAXE/5957626?s=N4IgTCBcDaIKwA4CMBaAYgTgQBgFJOwHYBZYgQTIA0BREAXQF8g; ComponentLink3Description: Manufacturer; ComponentLink3URL: https://spicat.avx.com/product/tan/chartview/F980J107MMAAXE; Status: Unchecked; Voltage: 6.3V; DB Parameter 1: 100uF; DB Parameter 2: 6.3V
footprint AVX TANTAL 0603 MS (Chip Resistor, Body 1.6x0.8mm, IPC High Density)
pins: 1, 2

## Cap X2 150nF 305V PP MS
designator C?, comment DB Parameter 1: 150nF  (hidden comment: Capacitor X2)
Capacitor X2 150nF 305V PP; Manufacturer: WIMA; Manufacturer Part Number: MKX2AW31504C00KI00; Tolerance: ±10%; Dielectric: Polypropylene; Production Status: Active; Distributor: Mouser; Distributor Part Number: 505-MKX2AW31504C00KI; Last Revision Date: 15.03.2021; Temperature Range: -55°C ~ +105°C; Mounting: TH; ComponentLink1Description: Datasheet; ComponentLink1URL: https://www.wima.de/wp-content/uploads/media/e_WIMA_MKP-X2.pdf; ComponentLink2Description: Distributor; ComponentLink2URL: https://eu.mouser.com/ProductDetail/WIMA/MKX2AW31504C00KI00?qs=z5u5uZJqM4M14B9XXb1YIA%3D%3D; ComponentLink3Description: Manufacturer; ComponentLink3URL: https://www.wima.de/wp-content/uploads/media/e_WIMA_MKP-X2.pdf; Status: Not Checked; Voltage: 305V; ComponentLink4Description: Charts; Capacitance: 150nF; DB Parameter 2: 305V; DB Parameter 3: Polypropylene
footprint MKX2 6mmx18mmx12.5mm
pins: 1, 2

## Cap Y2 4.7nF 250V Paper MS
designator C?, comment DB Parameter 1: 4.7nF  (hidden comment: Capacitor Y2)
Capacitor Y2 4.7nF 250V Paper; Manufacturer: Kemet; Manufacturer Part Number: PME271Y447MR30; Tolerance: ±20%; Production Status: Active; Distributor: Mouser; Distributor Part Number: 80-PME271Y447MR30; Last Revision Date: 15.03.2021; Temperature Range: -40°C ~ +100°C; Mounting: TH; ComponentLink1Description: Datasheet; ComponentLink1URL: https://content.kemet.com/datasheets/KEM_F3016_PME271Y_Y2_250.pdf; ComponentLink2Description: Distributor; ComponentLink2URL: https://eu.mouser.com/ProductDetail/KEMET/PME271Y447MR30?qs=%2Fha2pyFadugdEyBgcTxXg9aHJvbRot7grceua3Bfhq7U9cIe%252BEY0%252Bw%3D%3D; ComponentLink3Description: Manufacturer; ComponentLink3URL: https://www.kemet.com/en/us/search.html?q=PME271Y447MR30; Status: Not Checked; Voltage: 250V; Dielectric: Paper; ComponentLink4Description: Charts; Capacitance: 4.7nF; DB Parameter 2: 250V; DB Parameter 3: Paper
footprint PME271Y447MR30
pins: 1, 2

## Cap Y2 4.7nF 250V PET MS
designator C?, comment DB Parameter 1: 4.7nF  (hidden comment: Capacitor Y2)
Capacitor Y2 4.7nF 250V PET; Manufacturer: Kemet; Manufacturer Part Number: R60QF14704001K; Tolerance: ±10%; Production Status: Active; Distributor: Digi-Key; Distributor Part Number: 399-18570-ND; Last Revision Date: 23.07.2021; Temperature Range: -55°C ~ +105°C; Mounting: TH; ComponentLink1Description: Datasheet; ComponentLink1URL: https://content.kemet.com/datasheets/KEM_F3103_R60.pdf; ComponentLink2Description: Distributor; ComponentLink2URL: https://www.digikey.com/en/products/detail/kemet/R60QF14704001K/9556635; ComponentLink3Description: Manufacturer; ComponentLink3URL: https://www.kemet.com/en/us/search.html?q=R60QF14704001K; Status: Not Checked; Voltage: 250V; Dielectric: PET; ComponentLink4Description: Charts; Capacitance: 4.7nF; DB Parameter 2: 250V; DB Parameter 3: PET
footprint R60QF14704001K
pins: 1, 2

## Cap Y2 10nF 250V Paper MS
designator C?, comment DB Parameter 1: 10nF  (hidden comment: Capacitor Y2)
Capacitor Y2 10nF 250V Paper; Manufacturer: Kemet; Manufacturer Part Number: PME271Y510MR30; Tolerance: ±20%; Production Status: Active; Distributor: Mouser; Distributor Part Number: 80-PME271Y510MR30; Last Revision Date: 15.03.2021; Temperature Range: -40°C ~ +100°C; Mounting: TH; ComponentLink1Description: Datasheet; ComponentLink1URL: https://content.kemet.com/datasheets/KEM_F3016_PME271Y_Y2_250.pdf; ComponentLink2Description: Distributor; ComponentLink2URL: https://eu.mouser.com/ProductDetail/KEMET/PME271Y510MR30?qs=ffqAhwBssBvfy%252B9Xi7dzcQ%3D%3D; ComponentLink3Description: Manufacturer; ComponentLink3URL: https://www.kemet.com/en/us/search.html?q=PME271Y510MR30; Status: Not Checked; Voltage: 250V; Dielectric: Paper; ComponentLink4Description: Charts; Capacitance: 10nF; DB Parameter 2: 250V; DB Parameter 3: Paper
footprint PME271Y510MR30
pins: 1, 2

## Cap Y2 10nF 275V Polypropylene  MS
designator C?, comment DB Parameter 1: 10nF  (hidden comment: Capacitor Y2)
Capacitor Y2 10nF 275V Polypropylene; Manufacturer: Kemet; Manufacturer Part Number: R46KI21000001M; Tolerance: ±20%; Production Status: Active; Distributor: Digi-Key; Distributor Part Number: 399-19749-ND; Last Revision Date: 23.07.2021; Temperature Range: -40°C ~ +110°C; Mounting: TH; ComponentLink1Description: Datasheet; ComponentLink1URL: https://www.kemet.com/en/us/search.html?q=R46KI21000001M; ComponentLink2Description: Distributor; ComponentLink2URL: https://www.digikey.com/en/products/detail/kemet/R46KI21000001M/9561693; ComponentLink3Description: Manufacturer; ComponentLink3URL: https://www.kemet.com/en/us/search.html?q=R46KI21000001M; Status: Not Checked; Voltage: 275V; Dielectric: Polypropylene; ComponentLink4Description: Charts; Capacitance: 10nF; DB Parameter 2: 275V; DB Parameter 3: Polypropylene
footprint R46KI21000001M
pins: 1, 2

## CAPACITOR_EMI
designator C36, comment Value_param2: 16V  Value_param3: 2A  (hidden comment: 0.1µF)
0.1µF Feed Through Capacitor 16V 2A 30mOhm 0603 (1608 Metric), 3 PC Pad; ComponentManufacturer: Murata Electronics; ID: 1657; Component_M_P/N: NFM18PC104R1C3D; Checked: No; Production Status: Active; Locked: True; Value_param: 0.1µF; Mounting: SM; Verified: No; Supplier 1: Digi-Key; Supplier Part Number 1: 490-6969-1-ND
footprint CAPC16X08_EMI_123
pins: 1, 2 GND (power), 3

## Con DIN 41612 64-pin Male Angled AC MS
designator P?, comment DIN 41612  (value not drawn)
Connector DIN 41612 96-pin Male C-type; Manufacturer: Assmann WSW; Manufacturer Part Number: A-CM64ACR; Rated Current: 2A; Production Status: Active; Distributor: Schukat; Distributor Part Number: F5151 CM64RW; Last Revision Date: 02.08.2021; Temperature Range: -55°C ~ +125°C; Mounting: TH; ComponentLink1Description: Datasheet; ComponentLink1URL: https://www.assmann-wsw.com/uploads/datasheets/ASS_5678_CO.pdf; ComponentLink2Description: Distributor; ComponentLink2URL: https://www.schukat.com/schukat/schukat_cms_en.nsf/index/CMSDF15D356B046D53BC1256D550038A9E0?OpenDocument&wg=F5151&kb=CM64RW#CM64RW; ComponentLink3Description: Manufacturer; ComponentLink3URL: https://www.assmann-wsw.com/en/product/a-cm64acr/; Status: Not Checked; Parameter 1: A-CM64ACR; Parameter 2: 2A
footprint DIN 41612 64-pin Male Angled AC MS (DIN 41612 96-pin Male Type C Right Angle)
part A pins: A1, A2, A3, A4, A5, A6, A7, A8, A9, A10, A11, A12, A13, A14, A15, A16, A17, A18, A19, A20, A21, A22, A23, A24, A25, A26, A27, A28, A29, A30, A31, A32
part B pins: C1, C2, C3, C4, C5, C6, C7, C8, C9, C10, C11, C12, C13, C14, C15, C16, C17, C18, C19, C20, C21, C22, C23, C24, C25, C26, C27, C28, C29, C30, C31, C32

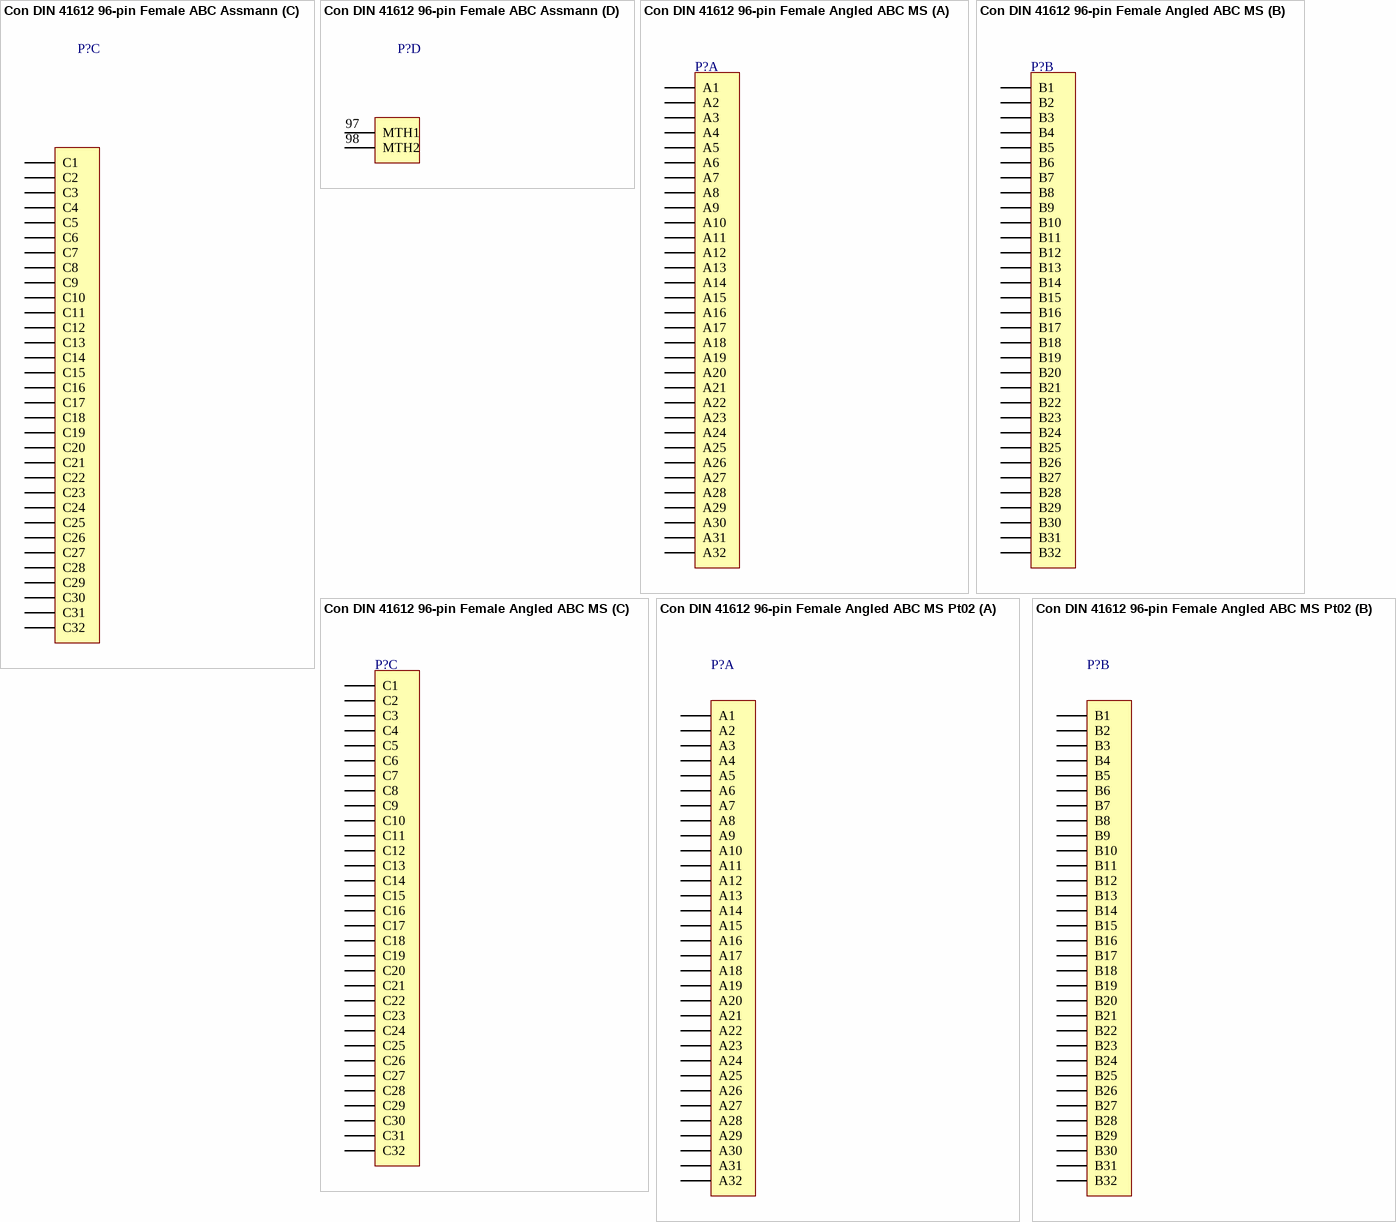
[diagram p2: symbols Con DIN 41612 96-pin Female ABC Assmann to Con DIN 41612 96-pin Female Angled ABC MS Pt02]

## Con DIN 41612 96-pin Female ABC Assmann
designator P?, comment DIN 41612  (value not drawn)
Connector DIN 41612 96-pin Female ABC; Manufacturer: Assmann; Manufacturer Part Number: A-CF96ABCT; Rated Current: 2A; Production Status: Active; DB Parameter 1: CF96TG; Distributor: Schukat; Distributor Part Number: F5154 CF96TG; Last Revision Date: 02.08.2021; Temperature Range: -55°C ~ +125°C; Mounting: TH; ComponentLink1Description: Datasheet; ComponentLink1URL: https://www.schukat.com/schukat/schukat_cms_en.nsf/index/warengruppe?OpenDocument&wg=F5154&kb=CF96TG#CF96TG; ComponentLink2Description: Distributor; ComponentLink2URL: https://www.schukat.com/schukat/schukat_cms_en.nsf/index/warengruppe?OpenDocument&wg=F5154&kb=CF96TG#CF96TG; ComponentLink3Description: Manufacturer; ComponentLink3URL: https://www.assmann-wsw.com/en/product/a-cf96abct/; Status: Not Checked; DB Parameter 2: 2A
footprint CONEC_122A11499X
part A pins: A1, A2, A3, A4, A5, A6, A7, A8, A9, A10, A11, A12, A13, A14, A15, A16, A17, A18, A19, A20, A21, A22, A23, A24, A25, A26, A27, A28, A29, A30, A31, A32
part B pins: B1, B2, B3, B4, B5, B6, B7, B8, B9, B10, B11, B12, B13, B14, B15, B16, B17, B18, B19, B20, B21, B22, B23, B24, B25, B26, B27, B28, B29, B30, B31, B32
part C pins: C1, C2, C3, C4, C5, C6, C7, C8, C9, C10, C11, C12, C13, C14, C15, C16, C17, C18, C19, C20, C21, C22, C23, C24, C25, C26, C27, C28, C29, C30, C31, C32
part D pins: 97 MTH1, 98 MTH2

## Con DIN 41612 96-pin Female Angled ABC MS
designator P?, comment DIN 41612  (value not drawn)
Connector DIN 41612 96-pin Female Angled R-type; Manufacturer: Assmann WSW; Manufacturer Part Number: A-RF96ABCR; Rated Current: 2A; Production Status: Active; Distributor: Schukat; Distributor Part Number: F5173 RF96RW; Last Revision Date: 12.08.2021; Temperature Range: -55°C ~ +125°C; Mounting: TH; ComponentLink1Description: Datasheet; ComponentLink1URL: https://www.assmann-wsw.com/uploads/datasheets/ASS_5680_CO.pdf; ComponentLink2Description: Distributor; ComponentLink2URL: https://www.schukat.com/schukat/schukat_cms_en.nsf/index/CMSDF15D356B046D53BC1256D550038A9E0?OpenDocument&wg=F5173&kb=RF96RW#RF96RW; ComponentLink3Description: Manufacturer; ComponentLink3URL: https://www.assmann-wsw.com/en/product/a-rf96abcr/; Status: Not Checked; Parameter 1: A-RF96ABCR; Parameter 2: 2A
footprint DIN 41612 96-pin Female Angled ABC MS (DIN 41612 96-pin Female Type R Right Angle)
part A pins: A1, A2, A3, A4, A5, A6, A7, A8, A9, A10, A11, A12, A13, A14, A15, A16, A17, A18, A19, A20, A21, A22, A23, A24, A25, A26, A27, A28, A29, A30, A31, A32
part B pins: B1, B2, B3, B4, B5, B6, B7, B8, B9, B10, B11, B12, B13, B14, B15, B16, B17, B18, B19, B20, B21, B22, B23, B24, B25, B26, B27, B28, B29, B30, B31, B32
part C pins: C1, C2, C3, C4, C5, C6, C7, C8, C9, C10, C11, C12, C13, C14, C15, C16, C17, C18, C19, C20, C21, C22, C23, C24, C25, C26, C27, C28, C29, C30, C31, C32

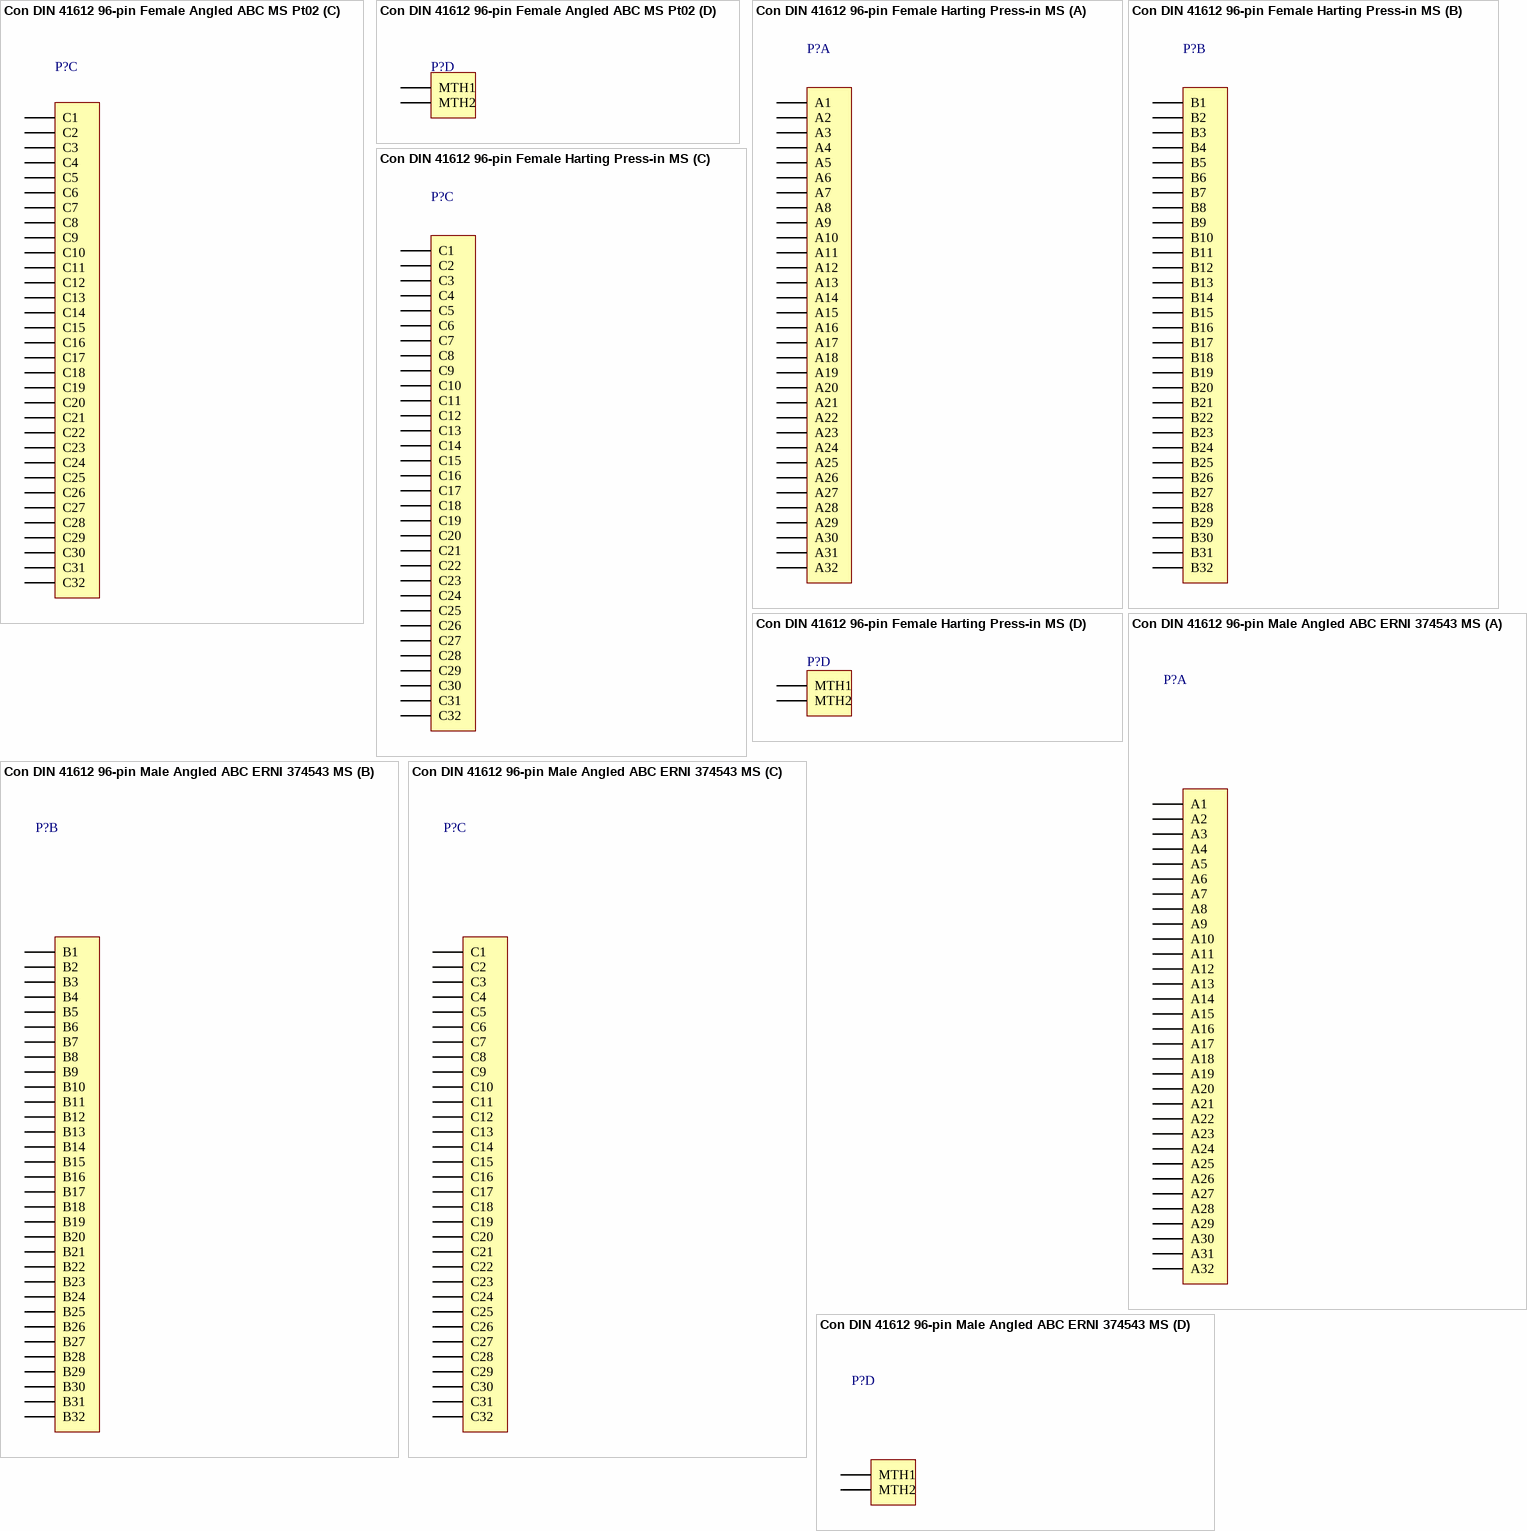
[diagram p3: symbols Con DIN 41612 96-pin Female Angled ABC MS Pt02 to Con DIN 41612 96-pin Male Angled ABC ERNI 374543 MS]

## Con DIN 41612 96-pin Female Angled ABC MS Pt02
designator P?, comment DIN 41612  (value not drawn)
Connector DIN 41612 96-pin Female Angled R/A; Manufacturer: HARTING; Manufacturer Part Number: 09732966801; Rated Current: 2A; Production Status: Active; Distributor: Mouser; Distributor Part Number: 617-09-73-296-6801; Last Revision Date: 27.07.2022; Temperature Range: -55°C ~ +125°C; Mounting: TH; ComponentLink1Description: Datasheet; ComponentLink1URL: https://b2b.harting.com/ebusiness/en/DIN-Signal-R096FS-30C1-2/09732966801; ComponentLink2Description: Distributor; ComponentLink2URL: https://eu.mouser.com/ProductDetail/HARTING/09732966801?qs=qa49y27LPCERjuqLV7KcbQ%3D%3D; ComponentLink3Description: Manufacturer; ComponentLink3URL: https://b2b.harting.com/ebusiness/en/DIN-Signal-R096FS-30C1-2/09732966801; Status: Not Checked; Parameter 1: 09732966801; Parameter 2: 2A
footprint DIN 41612 96-pin Female Angled ABC MS (DIN 41612 96-pin Female Type R Right Angle)
footprint DIN 41612 96-pin Female Angled ABC Mirrored MS (DIN 41612 96-pin Female Type R Right Angle)
part A pins: A1, A2, A3, A4, A5, A6, A7, A8, A9, A10, A11, A12, A13, A14, A15, A16, A17, A18, A19, A20, A21, A22, A23, A24, A25, A26, A27, A28, A29, A30, A31, A32
part B pins: B1, B2, B3, B4, B5, B6, B7, B8, B9, B10, B11, B12, B13, B14, B15, B16, B17, B18, B19, B20, B21, B22, B23, B24, B25, B26, B27, B28, B29, B30, B31, B32
part C pins: C1, C2, C3, C4, C5, C6, C7, C8, C9, C10, C11, C12, C13, C14, C15, C16, C17, C18, C19, C20, C21, C22, C23, C24, C25, C26, C27, C28, C29, C30, C31, C32
part D pins: 97 MTH1, 98 MTH2

## Con DIN 41612 96-pin Female Harting Press-in MS
designator P?, comment DIN 41612-96  (value not drawn)
96 Position Din Connector Receptacle, Female Sockets Gold-Palladium Through Hole, Press-in Termination; Manufacturer: HARTING; Manufacturer Part Number: 09032966411; Rated Current: 2A; Production Status: Active; Distributor: Digi-Key; Distributor Part Number: 1195-7395-ND; Last Revision Date: 22.07.2021; Temperature Range: -40°C ~ +105°C; Mounting: TH; ComponentLink1Description: Datasheet; ComponentLink1URL: https://b2b.harting.com/files/download/PRD/PDF_DS/PDF_DS_09032966411_EN.pdf?autoLogoutEnabled=false&autoLogoutTime=0&siteName=Ebusiness+Site&showPrivacyEmailAgreement=false&contextURL=https%3A%2F%2Fb2b.harting.com%2Febusiness%2Fen; ComponentLink2Description: Distributor; ComponentLink2URL: https://www.digikey.com/en/products/detail/harting/09032966411/4334410?s=N4IgTCBcDaIAwE44GYwIGzoCwEYcgF0BfIA; ComponentLink3Description: Manufacturer; ComponentLink3URL: https://b2b.harting.com/ebusiness/en/type-C-FE-pressin-WW162-96POL-AFS2/09032966411; Status: Not Checked; DB Parameter 2: 2A; DB Parameter 1: 09032966411
footprint HARTING_09032966411
part A pins: A1, A2, A3, A4, A5, A6, A7, A8, A9, A10, A11, A12, A13, A14, A15, A16, A17, A18, A19, A20, A21, A22, A23, A24, A25, A26, A27, A28, A29, A30, A31, A32
part B pins: B1, B2, B3, B4, B5, B6, B7, B8, B9, B10, B11, B12, B13, B14, B15, B16, B17, B18, B19, B20, B21, B22, B23, B24, B25, B26, B27, B28, B29, B30, B31, B32
part C pins: C1, C2, C3, C4, C5, C6, C7, C8, C9, C10, C11, C12, C13, C14, C15, C16, C17, C18, C19, C20, C21, C22, C23, C24, C25, C26, C27, C28, C29, C30, C31, C32
part D pins: 97 MTH1, 98 MTH2

## Con DIN 41612 96-pin Male Angled ABC ERNI 374543 MS
designator P?, comment DIN 41612  (value not drawn)
Connector DIN 41612 96-pin ERNI  Male C-type; Manufacturer Part Number: 374543; Rated Current: 2A; Production Status: Active; Distributor: Mouser; Distributor Part Number: 305-374543; Manufacturer: ERNI; Last Revision Date: 29.11.2022; Temperature Range: -55°C ~ +125°C; Mounting: TH; ComponentLink1Description: Datasheet; ComponentLink1URL: https://www.erni.com/en/products-and-solutions/detail/374543; ComponentLink2Description: Distributor; ComponentLink2URL: https://eu.mouser.com/ProductDetail/ERNI/374543?qs=FESYatJ8odJ98TlbtnVS6A%3D%3D; ComponentLink3Description: Manufacturer; ComponentLink3URL: https://www.erni.com/en/products-and-solutions/detail/374543; Status: Not Checked; Parameter 1: 374543; Parameter 2: 2A
footprint DIN 41612 96-pin Male Angled ABC ERNI 347543 MS (DIN 41612 96-pin Male Type C Right Angle)
part A pins: A1, A2, A3, A4, A5, A6, A7, A8, A9, A10, A11, A12, A13, A14, A15, A16, A17, A18, A19, A20, A21, A22, A23, A24, A25, A26, A27, A28, A29, A30, A31, A32
part B pins: B1, B2, B3, B4, B5, B6, B7, B8, B9, B10, B11, B12, B13, B14, B15, B16, B17, B18, B19, B20, B21, B22, B23, B24, B25, B26, B27, B28, B29, B30, B31, B32
part C pins: C1, C2, C3, C4, C5, C6, C7, C8, C9, C10, C11, C12, C13, C14, C15, C16, C17, C18, C19, C20, C21, C22, C23, C24, C25, C26, C27, C28, C29, C30, C31, C32
part D pins: 97 MTH1, 98 MTH2

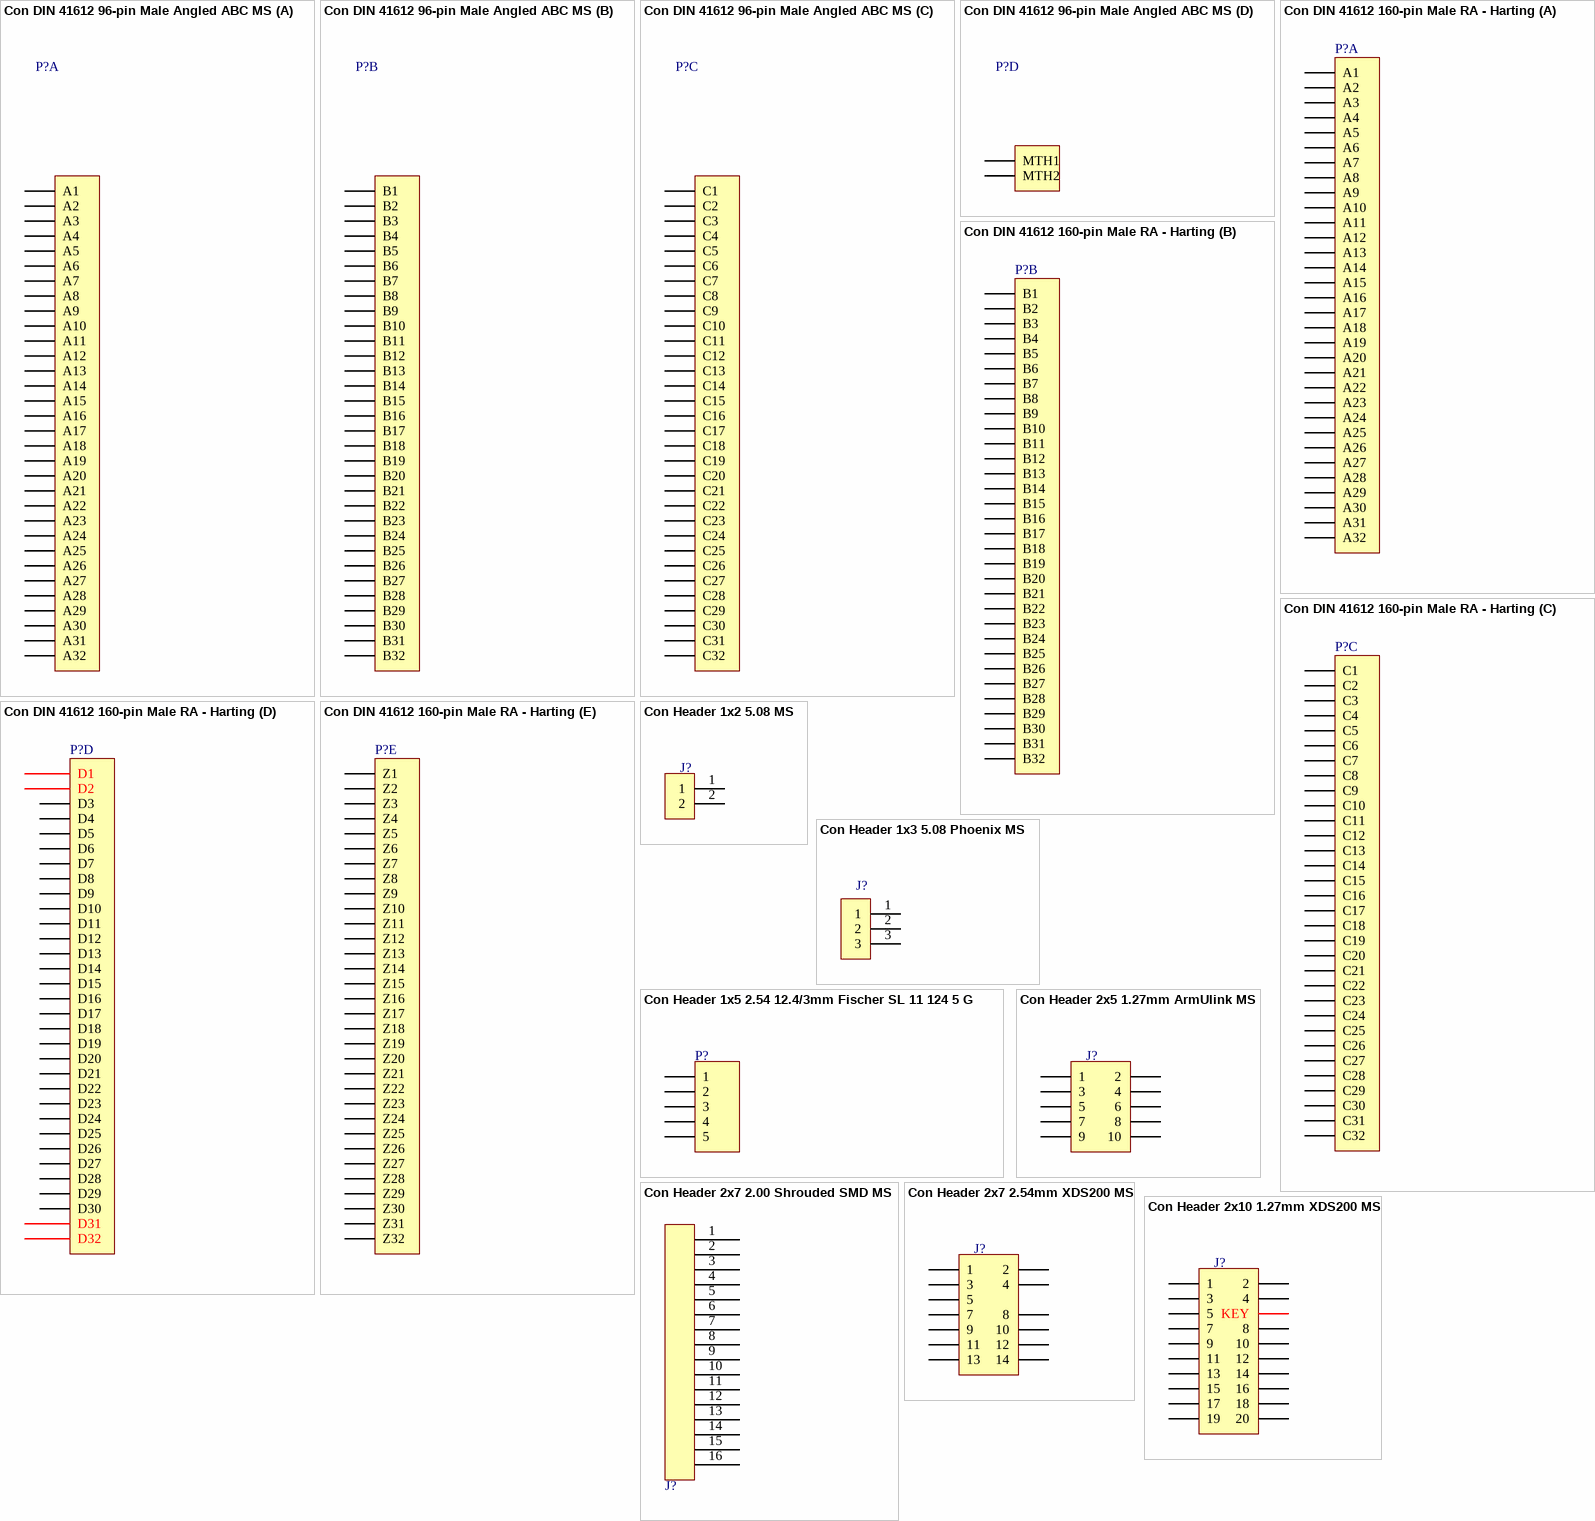
[diagram p4: symbols Con DIN 41612 96-pin Male Angled ABC MS to Con Header 2x10 1.27mm XDS200 MS]

## Con DIN 41612 96-pin Male Angled ABC MS
designator P?, comment DIN 41612  (value not drawn)
Connector DIN 41612 96-pin Male C-type; Manufacturer: Assmann WSW; Manufacturer Part Number: A-CM96ABCR; Rated Current: 2A; Parameter 1: CM96RW; Production Status: Active; Distributor: Schukat; Distributor Part Number: F5151 CM96RW; Last Revision Date: 02.08.2021; Temperature Range: -55°C ~ +125°C; Mounting: TH; ComponentLink1Description: Datasheet; ComponentLink1URL: https://www.assmann-wsw.com/uploads/datasheets/ASS_5678_CO.pdf; ComponentLink2Description: Distributor; ComponentLink2URL: https://www.schukat.com/schukat/schukat_cms_en.nsf/index/CMSDF15D356B046D53BC1256D550038A9E0?OpenDocument&wg=F5151&kb=CM96RW#CM96RW; ComponentLink3Description: Manufacturer; ComponentLink3URL: https://www.assmann-wsw.com/en/product/a-cm96abcr/; Status: Not Checked; Parameter 2: 2A
footprint DIN 41612 96-pin Male Angled ABC MS (DIN 41612 96-pin Male Type C Right Angle)
part A pins: A1, A2, A3, A4, A5, A6, A7, A8, A9, A10, A11, A12, A13, A14, A15, A16, A17, A18, A19, A20, A21, A22, A23, A24, A25, A26, A27, A28, A29, A30, A31, A32
part B pins: B1, B2, B3, B4, B5, B6, B7, B8, B9, B10, B11, B12, B13, B14, B15, B16, B17, B18, B19, B20, B21, B22, B23, B24, B25, B26, B27, B28, B29, B30, B31, B32
part C pins: C1, C2, C3, C4, C5, C6, C7, C8, C9, C10, C11, C12, C13, C14, C15, C16, C17, C18, C19, C20, C21, C22, C23, C24, C25, C26, C27, C28, C29, C30, C31, C32
part D pins: 97 MTH1, 98 MTH2

## Con DIN 41612 160-pin Male RA - Harting
designator P?, comment DIN 41612  (value not drawn)
Connector DIN 41612 160-pin Male Right Angle; Manufacturer: HARTING; Manufacturer Part Number: 02011602101; Rated Current: 1A; Production Status: Active; Distributor: Digi-Key; Distributor Part Number: 1195-1023-ND; Last Revision Date: 16.06.2021; Temperature Range: -55°C ~ +125°C; Mounting: TH; ComponentLink1Description: Datasheet; ComponentLink1URL: https://b2b.harting.com/files/livebooks/en/PRD0200000100183/downloads/livebook.pdf#page=9; ComponentLink2Description: Distributor; ComponentLink2URL: https://www.digikey.com/en/products/detail/harting/02011602101/3179605?s=N4IgTCBcDaIAxjgRiQNgU5IC6BfIA; ComponentLink3Description: Manufacturer; ComponentLink3URL: https://b2b.harting.com/ebusiness/en_us/DIN-Signal-harbus64-160MR-30C1-2-V4/02011602101; Status: Not Checked; DB Parameter 1: 02011602101; DB Parameter 2: 1A
footprint HARTING_02011602101
part A pins: A1, A2, A3, A4, A5, A6, A7, A8, A9, A10, A11, A12, A13, A14, A15, A16, A17, A18, A19, A20, A21, A22, A23, A24, A25, A26, A27, A28, A29, A30, A31, A32
part B pins: B1, B2, B3, B4, B5, B6, B7, B8, B9, B10, B11, B12, B13, B14, B15, B16, B17, B18, B19, B20, B21, B22, B23, B24, B25, B26, B27, B28, B29, B30, B31, B32
part C pins: C1, C2, C3, C4, C5, C6, C7, C8, C9, C10, C11, C12, C13, C14, C15, C16, C17, C18, C19, C20, C21, C22, C23, C24, C25, C26, C27, C28, C29, C30, C31, C32
part D pins: D1, D2, D3, D4, D5, D6, D7, D8, D9, D10, D11, D12, D13, D14, D15, D16, D17, D18, D19, D20, D21, D22, D23, D24, D25, D26, D27, D28, D29, D30, D31, D32
part E pins: Z1, Z2, Z3, Z4, Z5, Z6, Z7, Z8, Z9, Z10, Z11, Z12, Z13, Z14, Z15, Z16, Z17, Z18, Z19, Z20, Z21, Z22, Z23, Z24, Z25, Z26, Z27, Z28, Z29, Z30, Z31, Z32

## Con Header 1x2 5.08 MS
designator J?, comment Header Male TH  (value not drawn)
Con Header 1x2 5.08 12A; Manufacturer: Phoenix Contact; Manufacturer Part Number: 1759017; DB Parameter 1: MSTB 2,5/ 2-G-5,08; DB Parameter 3: 320V; Production Status: Active; Distributor: Digi-Key; Distributor Part Number: 277-1095-ND; Last Revision Date: 18.03.2021; Temperature Range: -40°C ~ +70°C; Mounting: TH; ComponentLink1Description: Datasheet; ComponentLink1URL: https://media.digikey.com/pdf/Data%20Sheets/Phoenix%20Contact%20PDFs/1759017.pdf; ComponentLink2Description: Distributor; ComponentLink2URL: https://www.digikey.com/en/products/detail/phoenix-contact/1759017/260463?s=N4IgTCBcDaIIwHYCsBOADIkBdAvkA; ComponentLink3Description: Manufacturer; ComponentLink3URL: https://www.phoenixcontact.com/online/portal/us?uri=pxc-oc-itemdetail:pid=1759017&library=usen&tab=1#DimensionsforPCBdesign; Status: Not Checked; Rated Current: 12A; DB Parameter 2: 12A
footprint MSTB 2,5_2-G-5,08 - 1759017
pins: 1, 2

## Con Header 1x3 5.08 Phoenix MS
designator J?, comment Header Male TH 3-pin  (value not drawn)
Con Header 1x3 5.08 12A; Manufacturer: Phoenix Contact; Manufacturer Part Number: 1776511; Mating Part: MSTB 2,5/ 3-STF-5,08; DB Parameter 1: MSTB 2,5/ 3-GF-5,08; DB Parameter 3: 320V; Production Status: Active; Distributor: Digi-Key; Distributor Part Number: 277-5772-ND; Last Revision Date: 26.07.2021; Temperature Range: -40°C ~ +70°C; Mounting: TH; ComponentLink1Description: Datasheet; ComponentLink1URL: https://www.phoenixcontact.com/online/portal/pi/?uri=pxc-oc-itemdetail:pid=1776511&library=pien&pcck=P&tab=1&selectedCategory=ALL; ComponentLink2Description: Distributor; ComponentLink2URL: https://www.digikey.com/en/products/detail/phoenix-contact/1776511/349001?s=N4IgTCBcDaIIwHYEDYCsc4gLoF8g; ComponentLink3Description: Manufacturer; ComponentLink3URL: https://www.phoenixcontact.com/online/portal/pi/?uri=pxc-oc-itemdetail:pid=1776511&library=pien&pcck=P&tab=1&selectedCategory=ALL; Status: Not Checked; Rated Current: 12A; DB Parameter 2: 12A
footprint MSTB 2,5_3-GF-5,08 - 1776511
pins: 1, 2, 3